# EAGLE library part STM32WB55RGV7 (library STM32WB55RGV7)
Multiprotocol wireless 32-bit MCU Arm-based Cortex-M4
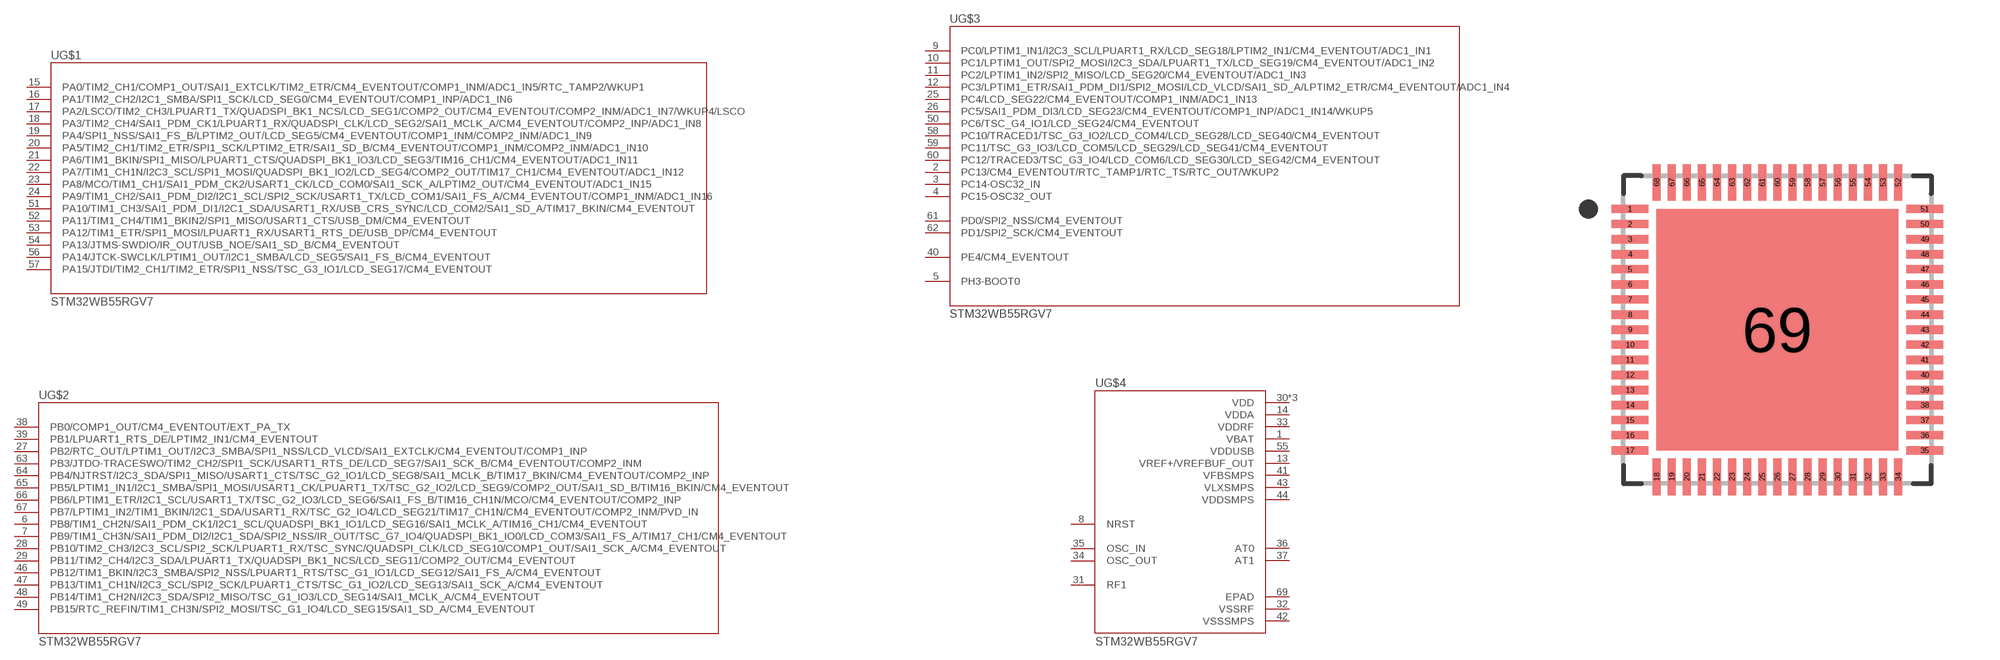
[diagram p0: symbol with the pads of QFN40P800X800X100-69N; footprint QFN40P800X800X100-69N]

Designator prefix U; gates G$1=STM32WB55RGV7_SECTION1 G$2=STM32WB55RGV7_SECTION2 G$3=STM32WB55RGV7_SECTION3 G$4=STM32WB55RGV7_SECTION4

## STM32WB55RGV7 (Availability: Unavailable; Description: Multiprotocol wireless 32-bit MCU Arm-based Cortex-M4; MF: STMicroelectronics; MP: STM32WB55RGV7; Package: None; Price: None)  [QFN40P800X800X100-69N]
1  G$4:VBAT  pwr
2  G$3:PC13/CM4_EVENTOUT/RTC_TAMP1/RTC_TS/RTC_OUT/WKUP2
3  G$3:PC14-OSC32_IN
4  G$3:PC15-OSC32_OUT
5  G$3:PH3-BOOT0
6  G$2:PB8/TIM1_CH2N/SAI1_PDM_CK1/I2C1_SCL/QUADSPI_BK1_IO1/LCD_SEG16/SAI1_MCLK_A/TIM16_CH1/CM4_EVENTOUT
7  G$2:PB9/TIM1_CH3N/SAI1_PDM_DI2/I2C1_SDA/SPI2_NSS/IR_OUT/TSC_G7_IO4/QUADSPI_BK1_IO0/LCD_COM3/SAI1_FS_A/TIM17_CH1/CM4_EVENTOUT
8  G$4:NRST  in
9  G$3:PC0/LPTIM1_IN1/I2C3_SCL/LPUART1_RX/LCD_SEG18/LPTIM2_IN1/CM4_EVENTOUT/ADC1_IN1
10  G$3:PC1/LPTIM1_OUT/SPI2_MOSI/I2C3_SDA/LPUART1_TX/LCD_SEG19/CM4_EVENTOUT/ADC1_IN2
11  G$3:PC2/LPTIM1_IN2/SPI2_MISO/LCD_SEG20/CM4_EVENTOUT/ADC1_IN3
12  G$3:PC3/LPTIM1_ETR/SAI1_PDM_DI1/SPI2_MOSI/LCD_VLCD/SAI1_SD_A/LPTIM2_ETR/CM4_EVENTOUT/ADC1_IN4
13  G$4:VREF+/VREFBUF_OUT  pwr
14  G$4:VDDA  pwr
15  G$1:PA0/TIM2_CH1/COMP1_OUT/SAI1_EXTCLK/TIM2_ETR/CM4_EVENTOUT/COMP1_INM/ADC1_IN5/RTC_TAMP2/WKUP1
16  G$1:PA1/TIM2_CH2/I2C1_SMBA/SPI1_SCK/LCD_SEG0/CM4_EVENTOUT/COMP1_INP/ADC1_IN6
17  G$1:PA2/LSCO/TIM2_CH3/LPUART1_TX/QUADSPI_BK1_NCS/LCD_SEG1/COMP2_OUT/CM4_EVENTOUT/COMP2_INM/ADC1_IN7/WKUP4/LSCO
18  G$1:PA3/TIM2_CH4/SAI1_PDM_CK1/LPUART1_RX/QUADSPI_CLK/LCD_SEG2/SAI1_MCLK_A/CM4_EVENTOUT/COMP2_INP/ADC1_IN8
19  G$1:PA4/SPI1_NSS/SAI1_FS_B/LPTIM2_OUT/LCD_SEG5/CM4_EVENTOUT/COMP1_INM/COMP2_INM/ADC1_IN9
20  G$1:PA5/TIM2_CH1/TIM2_ETR/SPI1_SCK/LPTIM2_ETR/SAI1_SD_B/CM4_EVENTOUT/COMP1_INM/COMP2_INM/ADC1_IN10
21  G$1:PA6/TIM1_BKIN/SPI1_MISO/LPUART1_CTS/QUADSPI_BK1_IO3/LCD_SEG3/TIM16_CH1/CM4_EVENTOUT/ADC1_IN11
22  G$1:PA7/TIM1_CH1N/I2C3_SCL/SPI1_MOSI/QUADSPI_BK1_IO2/LCD_SEG4/COMP2_OUT/TIM17_CH1/CM4_EVENTOUT/ADC1_IN12
23  G$1:PA8/MCO/TIM1_CH1/SAI1_PDM_CK2/USART1_CK/LCD_COM0/SAI1_SCK_A/LPTIM2_OUT/CM4_EVENTOUT/ADC1_IN15
24  G$1:PA9/TIM1_CH2/SAI1_PDM_DI2/I2C1_SCL/SPI2_SCK/USART1_TX/LCD_COM1/SAI1_FS_A/CM4_EVENTOUT/COMP1_INM/ADC1_IN16
25  G$3:PC4/LCD_SEG22/CM4_EVENTOUT/COMP1_INM/ADC1_IN13
26  G$3:PC5/SAI1_PDM_DI3/LCD_SEG23/CM4_EVENTOUT/COMP1_INP/ADC1_IN14/WKUP5
27  G$2:PB2/RTC_OUT/LPTIM1_OUT/I2C3_SMBA/SPI1_NSS/LCD_VLCD/SAI1_EXTCLK/CM4_EVENTOUT/COMP1_INP
28  G$2:PB10/TIM2_CH3/I2C3_SCL/SPI2_SCK/LPUART1_RX/TSC_SYNC/QUADSPI_CLK/LCD_SEG10/COMP1_OUT/SAI1_SCK_A/CM4_EVENTOUT
29  G$2:PB11/TIM2_CH4/I2C3_SDA/LPUART1_TX/QUADSPI_BK1_NCS/LCD_SEG11/COMP2_OUT/CM4_EVENTOUT
30  G$4:VDD  pwr
31  G$4:RF1
32  G$4:VSSRF  pwr
33  G$4:VDDRF  pwr
34  G$4:OSC_OUT  out
35  G$4:OSC_IN  in
36  G$4:AT0  out
37  G$4:AT1  out
38  G$2:PB0/COMP1_OUT/CM4_EVENTOUT/EXT_PA_TX
39  G$2:PB1/LPUART1_RTS_DE/LPTIM2_IN1/CM4_EVENTOUT
40  G$3:PE4/CM4_EVENTOUT
41  G$4:VFBSMPS  pwr
42  G$4:VSSSMPS  pwr
43  G$4:VLXSMPS  pwr
44  G$4:VDDSMPS  pwr
45  G$4:VDD  pwr
46  G$2:PB12/TIM1_BKIN/I2C3_SMBA/SPI2_NSS/LPUART1_RTS/TSC_G1_IO1/LCD_SEG12/SAI1_FS_A/CM4_EVENTOUT
47  G$2:PB13/TIM1_CH1N/I2C3_SCL/SPI2_SCK/LPUART1_CTS/TSC_G1_IO2/LCD_SEG13/SAI1_SCK_A/CM4_EVENTOUT
48  G$2:PB14/TIM1_CH2N/I2C3_SDA/SPI2_MISO/TSC_G1_IO3/LCD_SEG14/SAI1_MCLK_A/CM4_EVENTOUT
49  G$2:PB15/RTC_REFIN/TIM1_CH3N/SPI2_MOSI/TSC_G1_IO4/LCD_SEG15/SAI1_SD_A/CM4_EVENTOUT
50  G$3:PC6/TSC_G4_IO1/LCD_SEG24/CM4_EVENTOUT
51  G$1:PA10/TIM1_CH3/SAI1_PDM_DI1/I2C1_SDA/USART1_RX/USB_CRS_SYNC/LCD_COM2/SAI1_SD_A/TIM17_BKIN/CM4_EVENTOUT
52  G$1:PA11/TIM1_CH4/TIM1_BKIN2/SPI1_MISO/USART1_CTS/USB_DM/CM4_EVENTOUT
53  G$1:PA12/TIM1_ETR/SPI1_MOSI/LPUART1_RX/USART1_RTS_DE/USB_DP/CM4_EVENTOUT
54  G$1:PA13/JTMS-SWDIO/IR_OUT/USB_NOE/SAI1_SD_B/CM4_EVENTOUT
55  G$4:VDDUSB  pwr
56  G$1:PA14/JTCK-SWCLK/LPTIM1_OUT/I2C1_SMBA/LCD_SEG5/SAI1_FS_B/CM4_EVENTOUT
57  G$1:PA15/JTDI/TIM2_CH1/TIM2_ETR/SPI1_NSS/TSC_G3_IO1/LCD_SEG17/CM4_EVENTOUT
58  G$3:PC10/TRACED1/TSC_G3_IO2/LCD_COM4/LCD_SEG28/LCD_SEG40/CM4_EVENTOUT
59  G$3:PC11/TSC_G3_IO3/LCD_COM5/LCD_SEG29/LCD_SEG41/CM4_EVENTOUT
60  G$3:PC12/TRACED3/TSC_G3_IO4/LCD_COM6/LCD_SEG30/LCD_SEG42/CM4_EVENTOUT
61  G$3:PD0/SPI2_NSS/CM4_EVENTOUT
62  G$3:PD1/SPI2_SCK/CM4_EVENTOUT
63  G$2:PB3/JTDO-TRACESWO/TIM2_CH2/SPI1_SCK/USART1_RTS_DE/LCD_SEG7/SAI1_SCK_B/CM4_EVENTOUT/COMP2_INM
64  G$2:PB4/NJTRST/I2C3_SDA/SPI1_MISO/USART1_CTS/TSC_G2_IO1/LCD_SEG8/SAI1_MCLK_B/TIM17_BKIN/CM4_EVENTOUT/COMP2_INP
65  G$2:PB5/LPTIM1_IN1/I2C1_SMBA/SPI1_MOSI/USART1_CK/LPUART1_TX/TSC_G2_IO2/LCD_SEG9/COMP2_OUT/SAI1_SD_B/TIM16_BKIN/CM4_EVENTOUT
66  G$2:PB6/LPTIM1_ETR/I2C1_SCL/USART1_TX/TSC_G2_IO3/LCD_SEG6/SAI1_FS_B/TIM16_CH1N/MCO/CM4_EVENTOUT/COMP2_INP
67  G$2:PB7/LPTIM1_IN2/TIM1_BKIN/I2C1_SDA/USART1_RX/TSC_G2_IO4/LCD_SEG21/TIM17_CH1N/CM4_EVENTOUT/COMP2_INM/PVD_IN
68  G$4:VDD  pwr
69  G$4:EPAD  pwr

## Footprint QFN40P800X800X100-69N (pad centres in mm)
smd 0.97 x 0.22: 1 -3.905,3.2; 2 -3.905,2.8; 3 -3.905,2.4; 4 -3.905,2; 5 -3.905,1.6; 6 -3.905,1.2; 7 -3.905,0.8; 8 -3.905,0.4; 9 -3.905,0; 10 -3.905,-0.4; 11 -3.905,-0.8; 12 -3.905,-1.2; 13 -3.905,-1.6; 14 -3.905,-2; 15 -3.905,-2.4; 16 -3.905,-2.8; 17 -3.905,-3.2; 35 3.905,-3.2; 36 3.905,-2.8; 37 3.905,-2.4; 38 3.905,-2; 39 3.905,-1.6; 40 3.905,-1.2; 41 3.905,-0.8; 42 3.905,-0.4; 43 3.905,0; 44 3.905,0.4; 45 3.905,0.8; 46 3.905,1.2; 47 3.905,1.6; 48 3.905,2; 49 3.905,2.4; 50 3.905,2.8; 51 3.905,3.2
smd 0.22 x 0.97: 18 -3.2,-3.905; 19 -2.8,-3.905; 20 -2.4,-3.905; 21 -2,-3.905; 22 -1.6,-3.905; 23 -1.2,-3.905; 24 -0.8,-3.905; 25 -0.4,-3.905; 26 0,-3.905; 27 0.4,-3.905; 28 0.8,-3.905; 29 1.2,-3.905; 30 1.6,-3.905; 31 2,-3.905; 32 2.4,-3.905; 33 2.8,-3.905; 34 3.2,-3.905; 52 3.2,3.905; 53 2.8,3.905; 54 2.4,3.905; 55 2,3.905; 56 1.6,3.905; 57 1.2,3.905; 58 0.8,3.905; 59 0.4,3.905; 60 0,3.905; 61 -0.4,3.905; 62 -0.8,3.905; 63 -1.2,3.905; 64 -1.6,3.905; 65 -2,3.905; 66 -2.4,3.905; 67 -2.8,3.905; 68 -3.2,3.905
smd 6.4 x 6.4: 69 0,0